# Altium schematic symbol library Capacitors.SchLib: 24 symbols
Pins are listed as number, name and electrical type; pins without a type are passive.

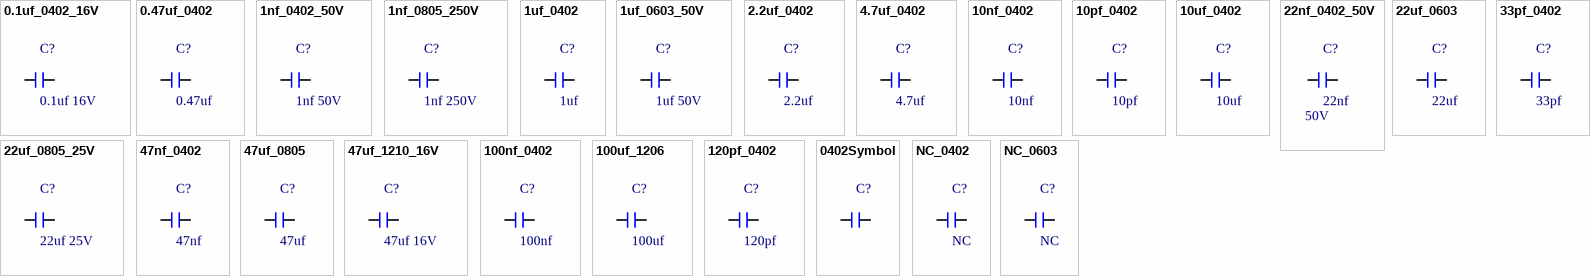
[diagram p0: symbols 0.1uf_0402_16V to NC_0603]

## 0.1uf_0402_16V
designator C?, comment 0.1uf 16V
0402; Manufacturer 1: *; Manufacturer Part Number 1: *
footprint 0402Footprint
pins: 1, 2

## 0.47uf_0402
designator C?, comment 0.47uf
0402; Manufacturer 1: *; Manufacturer Part Number 1: *
footprint 0402Footprint
pins: 1, 2

## 1nf_0402_50V
designator C?, comment 1nf 50V
0402; Manufacturer 1: *; Manufacturer Part Number 1: *
footprint 0402Footprint
pins: 1, 2

## 1nf_0805_250V
designator C?, comment 1nf 250V
0805; Manufacturer 1: *; Manufacturer Part Number 1: *
footprint 0805FOOTPRINT
pins: 1, 2

## 1uf_0402
designator C?, comment 1uf
0402; Manufacturer 1: *; Manufacturer Part Number 1: *
footprint 0402Footprint
pins: 1, 2

## 1uf_0603_50V
designator C?, comment 1uf 50V
0603; Manufacturer 1: *; Manufacturer Part Number 1: *
footprint 0603FOOTPRINT
pins: 1, 2

## 2.2uf_0402
designator C?, comment 2.2uf
0402; Manufacturer 1: *; Manufacturer Part Number 1: *
footprint 0402Footprint
pins: 1, 2

## 4.7uf_0402
designator C?, comment 4.7uf
0402; Manufacturer 1: *; Manufacturer Part Number 1: *
footprint 0402Footprint
pins: 1, 2

## 10nf_0402
designator C?, comment 10nf
0402; Manufacturer 1: *; Manufacturer Part Number 1: *
footprint 0402Footprint
pins: 1, 2

## 10pf_0402
designator C?, comment 10pf
0402; Manufacturer 1: *; Manufacturer Part Number 1: *
footprint 0402Footprint
pins: 1, 2

## 10uf_0402
designator C?, comment 10uf
0402; Manufacturer 1: *; Manufacturer Part Number 1: *
footprint 0402Footprint
pins: 1, 2

## 22nf_0402_50V
designator C?, comment 22nf  Voltage: 50V
0402; Manufacturer 1: *; Manufacturer Part Number 1: *
footprint 0402Footprint
pins: 1, 2

## 22uf_0603
designator C?, comment 22uf
0603; Manufacturer 1: *; Manufacturer Part Number 1: *
footprint 0603FOOTPRINT
pins: 1, 2

## 22uf_0805_25V
designator C?, comment 22uf 25V
0805; Manufacturer 1: *; Manufacturer Part Number 1: *
footprint 0805FOOTPRINT
pins: 1, 2

## 33pf_0402
designator C?, comment 33pf
0402; Manufacturer 1: *; Manufacturer Part Number 1: *
footprint 0402Footprint
pins: 1, 2

## 47nf_0402
designator C?, comment 47nf
0402; Manufacturer 1: *; Manufacturer Part Number 1: *
footprint 0402Footprint
pins: 1, 2

## 47uf_0805
designator C?, comment 47uf
0805; Manufacturer 1: *; Manufacturer Part Number 1: *
footprint 0805FOOTPRINT
pins: 1, 2

## 47uf_1210_16V
designator C?, comment 47uf 16V
Manufacturer 1: *; Manufacturer Part Number 1: *
footprint 1210 (Chip Capacitor, 2-Leads, Body 3.20x2.50mm, IPC Medium Density)
pins: 1, 2

## 100nf_0402
designator C?, comment 100nf
0402; Manufacturer 1: *; Manufacturer Part Number 1: *
footprint 0402Footprint
pins: 1, 2

## 100uf_1206
designator C?, comment 100uf
1206; Manufacturer 1: *; Manufacturer Part Number 1: *
footprint 1206 (Chip Capacitor, 2-Leads, Body 3.20x1.60mm, IPC Medium Density)
pins: 1, 2

## 120pf_0402
designator C?, comment 120pf
0402; Parameter 1: *; Parameter 2: *
footprint 0402Footprint
pins: 1, 2

## 0402Symbol
designator C?
0402; Manufacturer 1: *; Manufacturer Part Number 1: *
footprint 0402Footprint
pins: 1, 2

## NC_0402
designator C?, comment NC
Parameter 1: *; Parameter 2: *
footprint 0402Footprint
pins: 1, 2

## NC_0603
designator C?, comment NC
Manufacturer 1: *; Manufacturer Part Number 1: *
footprint 0603FOOTPRINT
pins: 1, 2